# EAGLE library part MULTIPLEXER-TI-TS5A4624 (library Pygmy)
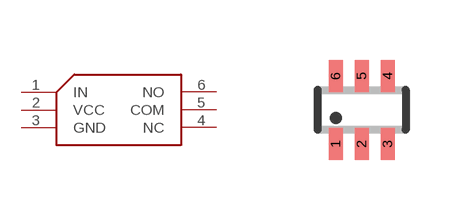
[diagram p53: symbol with the pads of SC70-6L; footprint SC70-6L]

Designator prefix -

## MULTIPLEXER-TI-TS5A4624  [SC70-6L]
1  IN
2  VCC
3  GND
4  NC
5  COM
6  NO

## Footprint SC70-6L (pad centres in mm)
SC-70 Package
smd 0.35 x 0.8: 1 -0.65,-0.85; 2 0,-0.85; 3 0.65,-0.85; 4 0.65,0.85; 5 0,0.85; 6 -0.65,0.85